# Altium footprint library PcbLib1.PcbLib: 1 footprints
Each footprint in its own frame and in the unit in brackets; x right, y up, seen from the top. Pads: shape width x height; smd on the part's side, far side on the other; paste and mask are expansions set on the pad; w line width, h text height; cw(c..) or ccw(c..) is an arc to the next point about the centre after c.
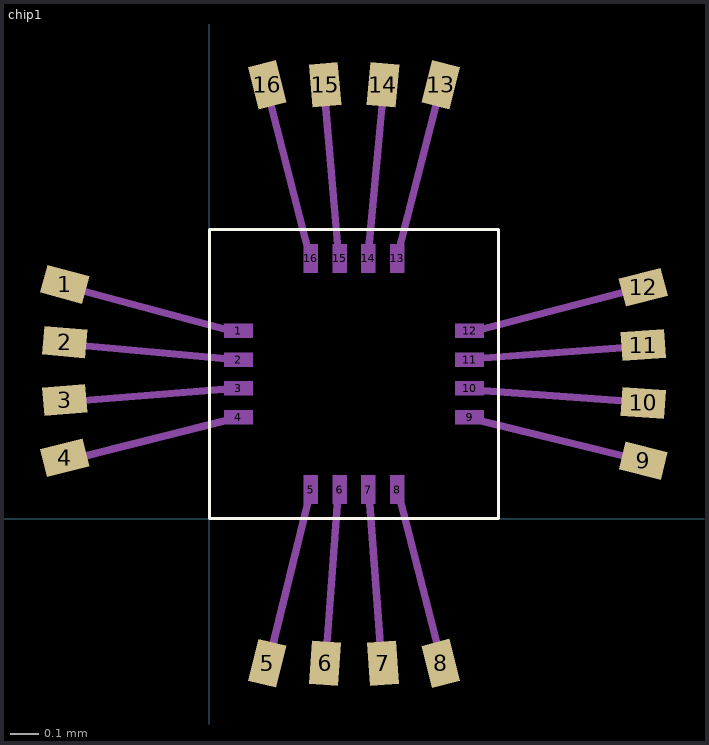
[diagram p0: the footprint, top view; thin cyan lines are the x and y axes]

## chip1 [mm]
pads (32):
  rect 0.15x0.1 smd rot 164.92 mask-2539.97: 1(-0.5,0.81)
  rect 0.1x0.05 on Mech33 mask+0.102: 1(0.1,0.65) 2(0.1,0.55) 3(0.1,0.45) 4(0.1,0.35) 9(0.9,0.35) 10(0.9,0.45) 11(0.9,0.55) 12(0.9,0.65)
  rect 0.15x0.1 smd rot 174.78 mask-2539.97: 2(-0.5,0.61)
  rect 0.15x0.1 smd rot 4.63 mask-2539.97: 3(-0.5,0.41)
  rect 0.15x0.1 smd rot 14.13 mask-2539.97: 4(-0.5,0.21)
  rect 0.15x0.1 smd rot 76.12 mask-2539.97: 5(0.2,-0.5)
  rect 0.05x0.1 on Mech33 mask+0.102: 5(0.35,0.1) 6(0.45,0.1) 7(0.55,0.1) 8(0.65,0.1) 13(0.65,0.9) 14(0.55,0.9) 15(0.45,0.9) 16(0.35,0.9)
  rect 0.15x0.1 smd rot 85.75 mask-2539.97: 6(0.4,-0.5)
  rect 0.15x0.1 smd rot 94.23 mask-2539.97: 7(0.6,-0.5)
  rect 0.15x0.1 smd rot 104.34 mask-2539.97: 8(0.8,-0.5)
  rect 0.15x0.1 smd rot 166.23 mask-2539.97: 9(1.5,0.2)
  rect 0.15x0.1 smd rot 175.83 mask-2539.97: 10(1.5,0.4)
  rect 0.15x0.1 smd rot 4.15 mask-2539.97: 11(1.5,0.6)
  rect 0.15x0.1 smd rot 14.53 mask-2539.97: 12(1.5,0.8)
  rect 0.15x0.1 smd rot 75.7 mask-2539.97: 13(0.8,1.5)
  rect 0.15x0.1 smd rot 84.63 mask-2539.97: 14(0.6,1.5)
  rect 0.15x0.1 smd rot 94.92 mask-2539.97: 15(0.4,1.5)
  rect 0.15x0.1 smd rot 104.3 mask-2539.97: 16(0.2,1.5)
Top Overlay:
  lines w0.01: 0,0 1,0 1,1 0,1 0,0
Top Solder:
  drawing of 16 lines, arcs and shapes, not listed
Top Wire Bonding (Mech35):
  lines w0.025: -0.501,0.403 0.094,0.451 ; -0.501,0.805 0.096,0.644 ; -0.499,0.604 0.096,0.55 ; -0.495,0.2 0.096,0.349 ; 0.196,1.497 0.349,0.896 ; 0.203,-0.501 0.352,0.1 ; 0.396,1.5 0.448,0.89 ; 0.402,-0.501 0.446,0.093 ; 0.547,0.896 0.604,1.499 ; 0.551,0.098 0.596,-0.504 ; 0.647,0.896 0.802,1.503 ; 0.652,0.095 0.804,-0.499 ; 0.899,0.644 1.495,0.798 ; 0.901,0.347 1.502,0.2 ; 0.901,0.446 1.497,0.402 ; 0.901,0.552 1.5,0.596
3D body: height 0.05, standoff 0, extent 0,-0.001 1,1.001